# Altium schematic symbol library IC_Analog_Devices_TMP36GT9Z_eec.SchLib: 1 symbol
Pins are listed as number, name and electrical type; pins without a type are passive.

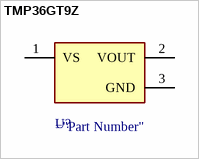
[diagram p0: symbol TMP36GT9Z]

## TMP36GT9Z
designator U?  (value not drawn)
pins: 1 VS, 2 VOUT, 3 GND